# EAGLE library part AUIRS2184S (library auris2184s)
HALF-BRIDGE DRIVER
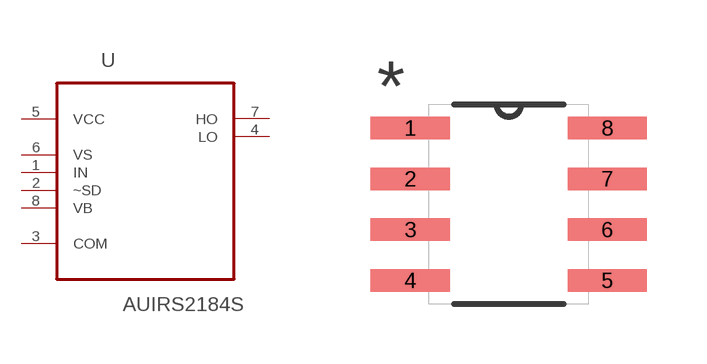
[diagram p0: symbol with the pads of SOIC127P600X175-8N; footprint SOIC127P600X175-8N]

Designator prefix U

## AUIRS2184S (MPN: AUIRS2184S; OC_FARNELL: 1866062; OC_NEWARK: 39T4040; PACKAGE: SOIC-8; SUPPLIER: INTERNATIONAL RECTIFIER)  [SOIC127P600X175-8N]
1  IN  in
2  ~SD  in
3  COM  pas
4  LO  out
5  VCC  pwr
6  VS  in
7  HO  out
8  VB  in

## Footprint SOIC127P600X175-8N (pad centres in mm)
smd 1.981 x 0.559: 1 -2.464,1.905; 2 -2.464,0.635; 3 -2.464,-0.635; 4 -2.464,-1.905; 5 2.464,-1.905; 6 2.464,-0.635; 7 2.464,0.635; 8 2.464,1.905